# Altium footprint library DFN2020.PcbLib: 1 footprints
Each footprint in its own frame and in the unit in brackets; x right, y up, seen from the top. Pads: shape width x height; smd on the part's side, far side on the other; paste and mask are expansions set on the pad; w line width, h text height; cw(c..) or ccw(c..) is an arc to the next point about the centre after c.
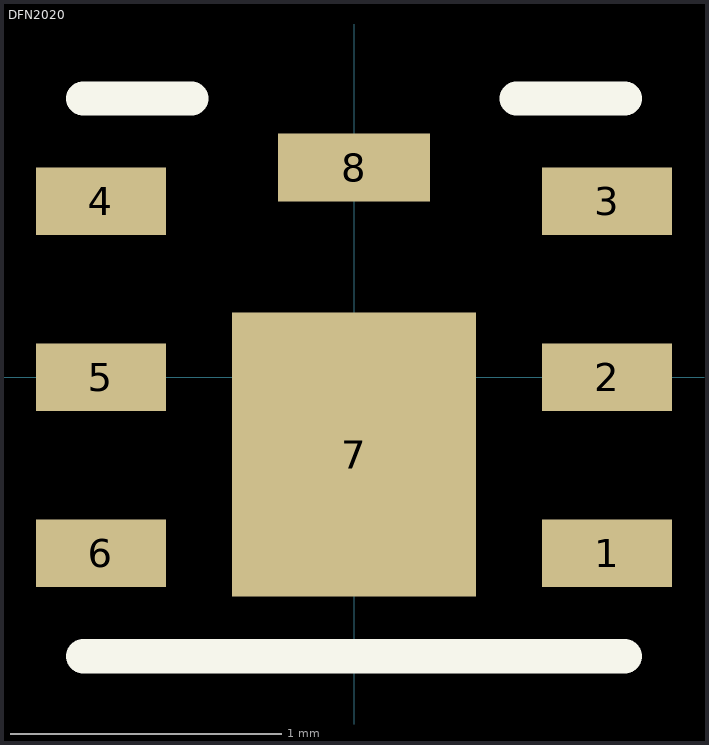
[diagram p0: the footprint, top view; thin cyan lines are the x and y axes]

## DFN2020 [mm]
height 0.8
pads (8):
  rect 0.48x0.25 smd mask+0.07: 1(0.935,-0.65) 2(0.935,0) 3(0.935,0.65) 4(-0.935,0.65) 5(-0.935,0) 6(-0.935,-0.65)
  rect 0.9x1.05 smd mask+0.1: 7(0,-0.285)
  rect 0.56x0.25 smd mask+0.07: 8(0,0.775)
Top Overlay:
  lines w0.127: -1,-1.03 1,-1.03 ; -1,1.03 -0.6,1.03 ; 0.6,1.03 1,1.03
  text "." at 1.4,-0.7 h1.26
3D body: height 0.65, standoff 0, extent -1,-1 1,1